# Altium schematic symbol library MC-306_32.7680K-E3_ROHS.SchLib: 1 symbol
Pins are listed as number, name and electrical type; pins without a type are passive.

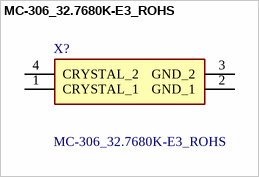
[diagram p0: symbol MC-306_32.7680K-E3_ROHS]

## MC-306_32.7680K-E3_ROHS
designator X?
Crystals 32.768KHz 6pF 20ppm -40C +85C; Manufacturer_Name: Epson Timing; Manufacturer_Part_Number: MC-306 32.7680K-E3:ROHS; Geometry.Height: 2.54mm; Mouser Part Number: 732-MC30632.768K-E3R; Mouser Price/Stock: https://www.mouser.co.uk/ProductDetail/Epson-Timing/MC-306-32.7680K-E3ROHS?qs=CU9taR8hkvbntLhqKVy%2F5g%3D%3D; Datasheet Link: https://componentsearchengine.com/Datasheets/1/MC-306 32.7680K-E3_ROHS.pdf
footprint MC306327680KE3ROHS
pins: 1 CRYSTAL_1, 2 GND_1, 3 GND_2, 4 CRYSTAL_2